# Altium schematic symbol library LP2998MAX.SchLib: 1 symbol
Pins are listed as number, name and electrical type; pins without a type are passive.

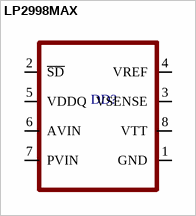
[diagram p0: symbol LP2998MAX]

## LP2998MAX
designator DD?
pins: 1 GND, 2 ~{SD}, 3 VSENSE, 4 VREF, 5 VDDQ, 6 AVIN, 7 PVIN, 8 VTT